# EAGLE library part RPI_B+ (library we-board)
Raspberry Pi 1 B+ / Pi 2 / Pi 3 / Pi Zero
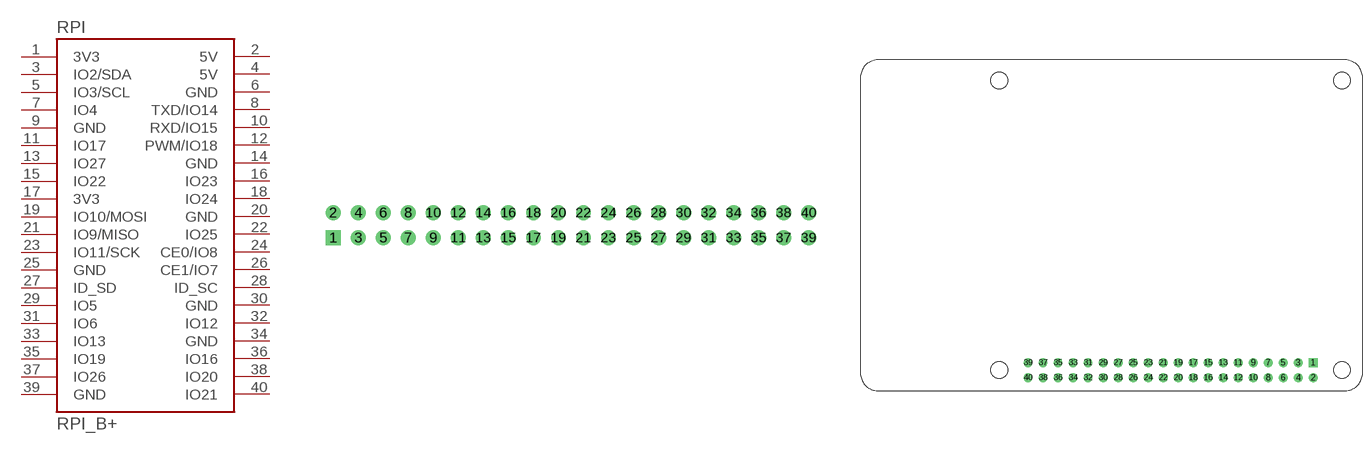
[diagram p6: symbol with the pads of RPI-B+_CON; footprints RPI-B+_CON, RPI-B+]

Designator prefix RPI

## RPI_B+-CON  [RPI-B+_CON]
1  3V3  pas
2  5V  pas
3  IO2/SDA  pas
4  5V  pas
5  IO3/SCL  pas
6  GND  pas
7  IO4  pas
8  TXD/IO14  pas
9  GND  pas
10  RXD/IO15  pas
11  IO17  pas
12  PWM/IO18  pas
13  IO27  pas
14  GND  pas
15  IO22  pas
16  IO23  pas
17  3V3  pas
18  IO24  pas
19  IO10/MOSI  pas
20  GND  pas
21  IO9/MISO  pas
22  IO25  pas
23  IO11/SCK  pas
24  CE0/IO8  pas
25  GND  pas
26  CE1/IO7  pas
27  ID_SD
28  ID_SC
29  IO5
30  GND
31  IO6
32  IO12
33  IO13
34  GND
35  IO19
36  IO16
37  IO26
38  IO20
39  GND
40  IO21

## RPI_B+  [RPI-B+]
Pads as for RPI-B+_CON

## RPI_B+-HAT  [RPI-B+HAT]
Pads as for RPI-B+_CON

## RPI_B+-HATCUT  [RPI-B+HAT_CUTOUT]
Pads as for RPI-B+_CON

## RPI_B+-HATTP  [RPI-B+HAT_TP]
Pads as for RPI-B+_CON

## RPI_B+-TEST  [RPI-B+_TEST]
Pads as for RPI-B+_CON

## RPI_B+-CONTOP  [RPI-B+_CON_TOP]
Pads as for RPI-B+_CON

## RPI_B+-CONBOT  [RPI-B+_CON_BOT]
Pads as for RPI-B+_CON

## Footprint RPI-B+_CON (pad centres in mm)
only connector
drill 1 square: 1 -24.13,-1.27
drill 1: 2 -24.13,1.27; 3 -21.59,-1.27; 4 -21.59,1.27; 5 -19.05,-1.27; 6 -19.05,1.27; 7 -16.51,-1.27; 8 -16.51,1.27; 9 -13.97,-1.27; 10 -13.97,1.27; 11 -11.43,-1.27; 12 -11.43,1.27; 13 -8.89,-1.27; 14 -8.89,1.27; 15 -6.35,-1.27; 16 -6.35,1.27; 17 -3.81,-1.27; 18 -3.81,1.27; 19 -1.27,-1.27; 20 -1.27,1.27; 21 1.27,-1.27; 22 1.27,1.27; 23 3.81,-1.27; 24 3.81,1.27; 25 6.35,-1.27; 26 6.35,1.27; 27 8.89,-1.27; 28 8.89,1.27; 29 11.43,-1.27; 30 11.43,1.27; 31 13.97,-1.27; 32 13.97,1.27; 33 16.51,-1.27; 34 16.51,1.27; 35 19.05,-1.27; 36 19.05,1.27; 37 21.59,-1.27; 38 21.59,1.27; 39 24.13,-1.27; 40 24.13,1.27

## Footprint RPI-B+ (pad centres in mm)
20 Dimension
drill 1 square: 1 76.63,4.77
drill 1: 2 76.63,2.23; 3 74.09,4.77; 4 74.09,2.23; 5 71.55,4.77; 6 71.55,2.23; 7 69.01,4.77; 8 69.01,2.23; 9 66.47,4.77; 10 66.47,2.23; 11 63.93,4.77; 12 63.93,2.23; 13 61.39,4.77; 14 61.39,2.23; 15 58.85,4.77; 16 58.85,2.23; 17 56.31,4.77; 18 56.31,2.23; 19 53.77,4.77; 20 53.77,2.23; 21 51.23,4.77; 22 51.23,2.23; 23 48.69,4.77; 24 48.69,2.23; 25 46.15,4.77; 26 46.15,2.23; 27 43.61,4.77; 28 43.61,2.23; 29 41.07,4.77; 30 41.07,2.23; 31 38.53,4.77; 32 38.53,2.23; 33 35.99,4.77; 34 35.99,2.23; 35 33.45,4.77; 36 33.45,2.23; 37 30.91,4.77; 38 30.91,2.23; 39 28.37,4.77; 40 28.37,2.23
hole 2.8 at 23.5,3.5
hole 2.8 at 23.5,52.5
hole 2.8 at 81.5,52.5
hole 2.8 at 81.5,3.5

## Footprint RPI-B+HAT (pad centres in mm)
20 Dimension
drill 1 square: 1 56.63,4.77
drill 1: 2 56.63,2.23; 3 54.09,4.77; 4 54.09,2.23; 5 51.55,4.77; 6 51.55,2.23; 7 49.01,4.77; 8 49.01,2.23; 9 46.47,4.77; 10 46.47,2.23; 11 43.93,4.77; 12 43.93,2.23; 13 41.39,4.77; 14 41.39,2.23; 15 38.85,4.77; 16 38.85,2.23; 17 36.31,4.77; 18 36.31,2.23; 19 33.77,4.77; 20 33.77,2.23; 21 31.23,4.77; 22 31.23,2.23; 23 28.69,4.77; 24 28.69,2.23; 25 26.15,4.77; 26 26.15,2.23; 27 23.61,4.77; 28 23.61,2.23; 29 21.07,4.77; 30 21.07,2.23; 31 18.53,4.77; 32 18.53,2.23; 33 15.99,4.77; 34 15.99,2.23; 35 13.45,4.77; 36 13.45,2.23; 37 10.91,4.77; 38 10.91,2.23; 39 8.37,4.77; 40 8.37,2.23
hole 2.8 at 3.5,3.5
hole 2.8 at 3.5,52.5
hole 2.8 at 61.5,52.5
hole 2.8 at 61.5,3.5

## Footprint RPI-B+HAT_CUTOUT (pad centres in mm)
20 Dimension
drill 1 square: 1 56.63,4.77
drill 1: 2 56.63,2.23; 3 54.09,4.77; 4 54.09,2.23; 5 51.55,4.77; 6 51.55,2.23; 7 49.01,4.77; 8 49.01,2.23; 9 46.47,4.77; 10 46.47,2.23; 11 43.93,4.77; 12 43.93,2.23; 13 41.39,4.77; 14 41.39,2.23; 15 38.85,4.77; 16 38.85,2.23; 17 36.31,4.77; 18 36.31,2.23; 19 33.77,4.77; 20 33.77,2.23; 21 31.23,4.77; 22 31.23,2.23; 23 28.69,4.77; 24 28.69,2.23; 25 26.15,4.77; 26 26.15,2.23; 27 23.61,4.77; 28 23.61,2.23; 29 21.07,4.77; 30 21.07,2.23; 31 18.53,4.77; 32 18.53,2.23; 33 15.99,4.77; 34 15.99,2.23; 35 13.45,4.77; 36 13.45,2.23; 37 10.91,4.77; 38 10.91,2.23; 39 8.37,4.77; 40 8.37,2.23
hole 2.8 at 3.5,3.5
hole 2.8 at 3.5,52.5
hole 2.8 at 61.5,52.5
hole 2.8 at 61.5,3.5

## Footprint RPI-B+HAT_TP (pad centres in mm)
21 tPlace
drill 1 square: 1 56.63,4.77
drill 1: 2 56.63,2.23; 3 54.09,4.77; 4 54.09,2.23; 5 51.55,4.77; 6 51.55,2.23; 7 49.01,4.77; 8 49.01,2.23; 9 46.47,4.77; 10 46.47,2.23; 11 43.93,4.77; 12 43.93,2.23; 13 41.39,4.77; 14 41.39,2.23; 15 38.85,4.77; 16 38.85,2.23; 17 36.31,4.77; 18 36.31,2.23; 19 33.77,4.77; 20 33.77,2.23; 21 31.23,4.77; 22 31.23,2.23; 23 28.69,4.77; 24 28.69,2.23; 25 26.15,4.77; 26 26.15,2.23; 27 23.61,4.77; 28 23.61,2.23; 29 21.07,4.77; 30 21.07,2.23; 31 18.53,4.77; 32 18.53,2.23; 33 15.99,4.77; 34 15.99,2.23; 35 13.45,4.77; 36 13.45,2.23; 37 10.91,4.77; 38 10.91,2.23; 39 8.37,4.77; 40 8.37,2.23

## Footprint RPI-B+_TEST (pad centres in mm)
Test Pins
drill 1.3 pad 1.9: 1 76.63,4.77; 2 76.63,2.23; 3 74.09,4.77; 4 74.09,2.23; 5 71.55,4.77; 6 71.55,2.23; 7 69.01,4.77; 8 69.01,2.23; 9 66.47,4.77; 10 66.47,2.23; 11 63.93,4.77; 12 63.93,2.23; 13 61.39,4.77; 14 61.39,2.23; 15 58.85,4.77; 16 58.85,2.23; 17 56.31,4.77; 18 56.31,2.23; 19 53.77,4.77; 20 53.77,2.23; 21 51.23,4.77; 22 51.23,2.23; 23 48.69,4.77; 24 48.69,2.23; 25 46.15,4.77; 26 46.15,2.23; 27 43.61,4.77; 28 43.61,2.23; 29 41.07,4.77; 30 41.07,2.23; 31 38.53,4.77; 32 38.53,2.23; 33 35.99,4.77; 34 35.99,2.23; 35 33.45,4.77; 36 33.45,2.23; 37 30.91,4.77; 38 30.91,2.23; 39 28.37,4.77; 40 28.37,2.23
hole 2.8 at 23.5,3.5
hole 2.8 at 23.5,52.5
hole 2.8 at 81.5,52.5
hole 2.8 at 81.5,3.5

## Footprint RPI-B+_CON_TOP (pad centres in mm)
only connector (SMD top)
smd 1.6 x 1.6: 1 -24.13,-2.7; 2 -24.13,2.7; 3 -21.59,-2.7; 4 -21.59,2.7; 5 -19.05,-2.7; 6 -19.05,2.7; 7 -16.51,-2.7; 8 -16.51,2.7; 9 -13.97,-2.7; 10 -13.97,2.7; 11 -11.43,-2.7; 12 -11.43,2.7; 13 -8.89,-2.7; 14 -8.89,2.7; 15 -6.35,-2.7; 16 -6.35,2.7; 17 -3.81,-2.7; 18 -3.81,2.7; 19 -1.27,-2.7; 20 -1.27,2.7; 21 1.27,-2.7; 22 1.27,2.7; 23 3.81,-2.7; 24 3.81,2.7; 25 6.35,-2.7; 26 6.35,2.7; 27 8.89,-2.7; 28 8.89,2.7; 29 11.43,-2.7; 30 11.43,2.7; 31 13.97,-2.7; 32 13.97,2.7; 33 16.51,-2.7; 34 16.51,2.7; 35 19.05,-2.7; 36 19.05,2.7; 37 21.59,-2.7; 38 21.59,2.7; 39 24.13,-2.7; 40 24.13,2.7
hole 0.9 at 24.13,1.27
hole 0.9 at 21.59,1.27
hole 0.9 at 19.05,1.27
hole 0.9 at 16.51,1.27
hole 0.9 at 13.97,1.27
hole 0.9 at 11.43,1.27
hole 0.9 at 8.89,1.27
hole 0.9 at 6.35,1.27
hole 0.9 at 3.81,1.27
hole 0.9 at 1.27,1.27
hole 0.9 at -1.27,1.27
hole 0.9 at -3.81,1.27
hole 0.9 at -6.35,1.27
hole 0.9 at -8.89,1.27
hole 0.9 at -11.43,1.27
hole 0.9 at -13.97,1.27
hole 0.9 at -16.51,1.27
hole 0.9 at -19.05,1.27
hole 0.9 at -21.59,1.27
hole 0.9 at -24.13,1.27
hole 0.9 at -24.13,-1.27
hole 0.9 at -21.59,-1.27
hole 0.9 at -19.05,-1.27
hole 0.9 at -16.51,-1.27
hole 0.9 at -13.97,-1.27
hole 0.9 at -11.43,-1.27
hole 0.9 at -8.89,-1.27
hole 0.9 at -6.35,-1.27
hole 0.9 at -3.81,-1.27
hole 0.9 at -1.27,-1.27
hole 0.9 at 1.27,-1.27
hole 0.9 at 3.81,-1.27
hole 0.9 at 6.35,-1.27
hole 0.9 at 8.89,-1.27
hole 0.9 at 11.43,-1.27
hole 0.9 at 13.97,-1.27
hole 0.9 at 16.51,-1.27
hole 0.9 at 19.05,-1.27
hole 0.9 at 21.59,-1.27
hole 0.9 at 24.13,-1.27
hole 1.7 at -22.86,0
hole 1.7 at 22.86,0

## Footprint RPI-B+_CON_BOT (pad centres in mm)
only connector (SMD bot)
smd 1.6 x 1.6 bottom: 1 -24.13,-2.7; 2 -24.13,2.7; 3 -21.59,-2.7; 4 -21.59,2.7; 5 -19.05,-2.7; 6 -19.05,2.7; 7 -16.51,-2.7; 8 -16.51,2.7; 9 -13.97,-2.7; 10 -13.97,2.7; 11 -11.43,-2.7; 12 -11.43,2.7; 13 -8.89,-2.7; 14 -8.89,2.7; 15 -6.35,-2.7; 16 -6.35,2.7; 17 -3.81,-2.7; 18 -3.81,2.7; 19 -1.27,-2.7; 20 -1.27,2.7; 21 1.27,-2.7; 22 1.27,2.7; 23 3.81,-2.7; 24 3.81,2.7; 25 6.35,-2.7; 26 6.35,2.7; 27 8.89,-2.7; 28 8.89,2.7; 29 11.43,-2.7; 30 11.43,2.7; 31 13.97,-2.7; 32 13.97,2.7; 33 16.51,-2.7; 34 16.51,2.7; 35 19.05,-2.7; 36 19.05,2.7; 37 21.59,-2.7; 38 21.59,2.7; 39 24.13,-2.7; 40 24.13,2.7
hole 0.9 at 24.13,1.27
hole 0.9 at 21.59,1.27
hole 0.9 at 19.05,1.27
hole 0.9 at 16.51,1.27
hole 0.9 at 13.97,1.27
hole 0.9 at 11.43,1.27
hole 0.9 at 8.89,1.27
hole 0.9 at 6.35,1.27
hole 0.9 at 3.81,1.27
hole 0.9 at 1.27,1.27
hole 0.9 at -1.27,1.27
hole 0.9 at -3.81,1.27
hole 0.9 at -6.35,1.27
hole 0.9 at -8.89,1.27
hole 0.9 at -11.43,1.27
hole 0.9 at -13.97,1.27
hole 0.9 at -16.51,1.27
hole 0.9 at -19.05,1.27
hole 0.9 at -21.59,1.27
hole 0.9 at -24.13,1.27
hole 0.9 at -24.13,-1.27
hole 0.9 at -21.59,-1.27
hole 0.9 at -19.05,-1.27
hole 0.9 at -16.51,-1.27
hole 0.9 at -13.97,-1.27
hole 0.9 at -11.43,-1.27
hole 0.9 at -8.89,-1.27
hole 0.9 at -6.35,-1.27
hole 0.9 at -3.81,-1.27
hole 0.9 at -1.27,-1.27
hole 0.9 at 1.27,-1.27
hole 0.9 at 3.81,-1.27
hole 0.9 at 6.35,-1.27
hole 0.9 at 8.89,-1.27
hole 0.9 at 11.43,-1.27
hole 0.9 at 13.97,-1.27
hole 0.9 at 16.51,-1.27
hole 0.9 at 19.05,-1.27
hole 0.9 at 21.59,-1.27
hole 0.9 at 24.13,-1.27
hole 1.7 at -22.86,0
hole 1.7 at 22.86,0